# Altium footprint library Package_SO.PcbLib: 393 footprints (part 22 of 25)
Each footprint in its own frame and in the unit in brackets; x right, y up, seen from the top. Pads: shape width x height; smd on the part's side, far side on the other; paste and mask are expansions set on the pad; w line width, h text height; cw(c..) or ccw(c..) is an arc to the next point about the centre after c.
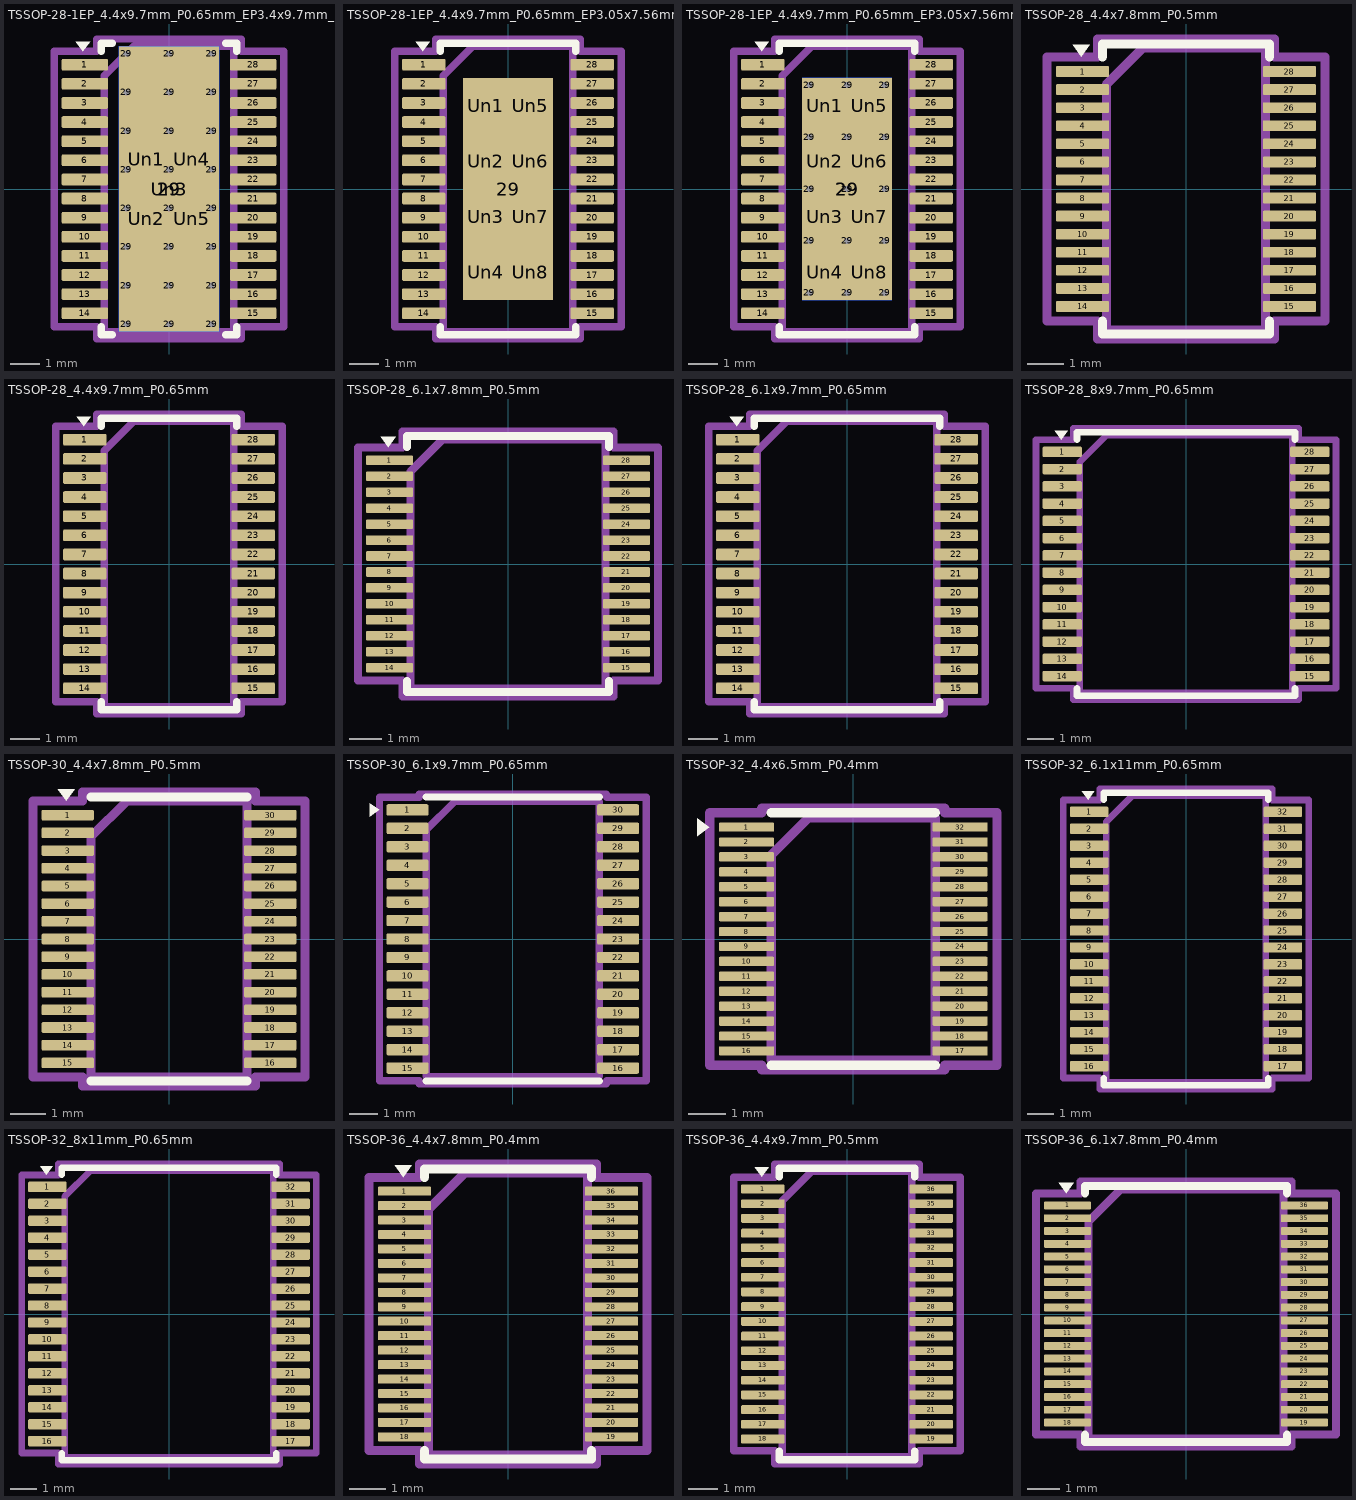
[diagram p21: the footprints below, top view; thin cyan lines are the x and y axes]

## TSSOP-28-1EP_4.4x9.7mm_P0.65mm_EP3.4x9.7mm_Mask3.1x4.05mm_ThermalVias [mm]
pads (59):
  rrect25% 1.575x0.4 smd: 1(-2.863,4.225) 2(-2.863,3.575) 3(-2.863,2.925) 4(-2.863,2.275) 5(-2.863,1.625) 6(-2.863,0.975) 7(-2.863,0.325) 8(-2.863,-0.325) 9(-2.863,-0.975) 10(-2.863,-1.625) 11(-2.863,-2.275) 12(-2.863,-2.925) 13(-2.863,-3.575) 14(-2.863,-4.225) 15(2.863,-4.225) 16(2.863,-3.575) 17(2.863,-2.925) 18(2.863,-2.275) 19(2.863,-1.625) 20(2.863,-0.975) 21(2.863,-0.325) 22(2.863,0.325) 23(2.863,0.975) 24(2.863,1.625) 25(2.863,2.275) 26(2.863,2.925) 27(2.863,3.575) 28(2.863,4.225)
  round 0.5 hole 0.2: 29(-1.45,-4.6) 29(-1.45,-3.286) 29(-1.45,-1.971) 29(-1.45,-0.657) 29(-1.45,0.657) 29(-1.45,1.971) 29(-1.45,3.286) 29(-1.45,4.6) 29(0,-4.6) 29(0,-3.286) 29(0,-1.971) 29(0,-0.657) 29(0,0.657) 29(0,1.971) 29(0,3.286) 29(0,4.6) 29(1.45,-4.6) 29(1.45,-3.286) 29(1.45,-1.971) 29(1.45,-0.657) 29(1.45,0.657) 29(1.45,1.971) 29(1.45,3.286) 29(1.45,4.6)
  rect 3.4x9.7 smd: 29(0,0)
  rect 3.4x9.7 smd far side: 29(0,0)
  rrect20% 1.25x1.63 on Top Paste: Un1(-0.775,1.01) Un2(-0.775,-1.01) Un4(0.775,1.01) Un5(0.775,-1.01)
  rect 3.1x4.05 on Top Solder: Un3(0,0)
F.SilkS:
  region: -2.925,4.685 -3.165,5.015 -2.685,5.015
  lines w0.254: -2.31,-4.685 -2.31,-4.96 -1.936,-4.96 ; -2.31,4.685 -2.31,4.96 -1.936,4.96 ; 1.936,-4.96 2.31,-4.96 2.31,-4.685 ; 1.936,4.96 2.31,4.96 2.31,4.685
Top Assembly:
  lines w0.254: -2.2,-4.85 2.2,-4.85 2.2,4.85 -1.2,4.85 -2.2,3.85 -2.2,-4.85
  text "'.Designator'" at -4.047,-0.84 h1
Top Courtyard:
  lines w0.254: -3.9,-4.68 -2.45,-4.68 -2.45,-5.1 2.45,-5.1 2.45,-4.68 3.9,-4.68 3.9,4.68 2.45,4.68 2.45,5.1 -2.45,5.1 -2.45,4.68 -3.9,4.68 -3.9,-4.68
Top Designator:
  text ".Designator" at -7.702,-0.508 h1.52

## TSSOP-28-1EP_4.4x9.7mm_P0.65mm_EP3.05x7.56mm [mm]
pads (37):
  rrect25% 1.475x0.4 smd: 1(-2.863,4.225) 2(-2.863,3.575) 3(-2.863,2.925) 4(-2.863,2.275) 5(-2.863,1.625) 6(-2.863,0.975) 7(-2.863,0.325) 8(-2.863,-0.325) 9(-2.863,-0.975) 10(-2.863,-1.625) 11(-2.863,-2.275) 12(-2.863,-2.925) 13(-2.863,-3.575) 14(-2.863,-4.225) 15(2.863,-4.225) 16(2.863,-3.575) 17(2.863,-2.925) 18(2.863,-2.275) 19(2.863,-1.625) 20(2.863,-0.975) 21(2.863,-0.325) 22(2.863,0.325) 23(2.863,0.975) 24(2.863,1.625) 25(2.863,2.275) 26(2.863,2.925) 27(2.863,3.575) 28(2.863,4.225)
  rect 3.05x7.56 smd: 29(0,0)
  rrect20% 1.23x1.52 on Top Paste: Un1(-0.76,2.835) Un2(-0.76,0.945) Un3(-0.76,-0.945) Un4(-0.76,-2.835) Un5(0.76,2.835) Un6(0.76,0.945) Un7(0.76,-0.945) Un8(0.76,-2.835)
F.SilkS:
  region: -2.9,4.685 -3.14,5.015 -2.66,5.015
  lines w0.254: -2.31,-4.685 -2.31,-4.96 0,-4.96 2.31,-4.96 2.31,-4.685 ; -2.31,4.685 -2.31,4.96 0,4.96 2.31,4.96 2.31,4.685
Top Assembly:
  lines w0.254: -2.2,-4.85 2.2,-4.85 2.2,4.85 -1.2,4.85 -2.2,3.85 -2.2,-4.85
  text "'.Designator'" at -4.047,-0.84 h1
Top Courtyard:
  lines w0.254: -3.85,-4.68 -2.45,-4.68 -2.45,-5.1 2.45,-5.1 2.45,-4.68 3.85,-4.68 3.85,4.68 2.45,4.68 2.45,5.1 -2.45,5.1 -2.45,4.68 -3.85,4.68 -3.85,-4.68
Top Designator:
  text ".Designator" at -7.727,-0.508 h1.52

## TSSOP-28-1EP_4.4x9.7mm_P0.65mm_EP3.05x7.56mm_ThermalVias [mm]
pads (53):
  rrect25% 1.475x0.4 smd: 1(-2.863,4.225) 2(-2.863,3.575) 3(-2.863,2.925) 4(-2.863,2.275) 5(-2.863,1.625) 6(-2.863,0.975) 7(-2.863,0.325) 8(-2.863,-0.325) 9(-2.863,-0.975) 10(-2.863,-1.625) 11(-2.863,-2.275) 12(-2.863,-2.925) 13(-2.863,-3.575) 14(-2.863,-4.225) 15(2.863,-4.225) 16(2.863,-3.575) 17(2.863,-2.925) 18(2.863,-2.275) 19(2.863,-1.625) 20(2.863,-0.975) 21(2.863,-0.325) 22(2.863,0.325) 23(2.863,0.975) 24(2.863,1.625) 25(2.863,2.275) 26(2.863,2.925) 27(2.863,3.575) 28(2.863,4.225)
  round 0.5 hole 0.2: 29(-1.275,-3.53) 29(-1.275,-1.765) 29(-1.275,0) 29(-1.275,1.765) 29(-1.275,3.53) 29(0,-3.53) 29(0,-1.765) 29(0,0) 29(0,1.765) 29(0,3.53) 29(1.275,-3.53) 29(1.275,-1.765) 29(1.275,0) 29(1.275,1.765) 29(1.275,3.53)
  rect 3.05x7.56 smd: 29(0,0)
  rect 3.05x7.56 smd far side: 29(0,0)
  rrect20% 1.23x1.52 on Top Paste: Un1(-0.76,2.835) Un2(-0.76,0.945) Un3(-0.76,-0.945) Un4(-0.76,-2.835) Un5(0.76,2.835) Un6(0.76,0.945) Un7(0.76,-0.945) Un8(0.76,-2.835)
F.SilkS:
  region: -2.9,4.685 -3.14,5.015 -2.66,5.015
  lines w0.254: -2.31,-4.685 -2.31,-4.96 0,-4.96 2.31,-4.96 2.31,-4.685 ; -2.31,4.685 -2.31,4.96 0,4.96 2.31,4.96 2.31,4.685
Top Assembly:
  lines w0.254: -2.2,-4.85 2.2,-4.85 2.2,4.85 -1.2,4.85 -2.2,3.85 -2.2,-4.85
  text "'.Designator'" at -4.047,-0.84 h1
Top Courtyard:
  lines w0.254: -3.85,-4.68 -2.45,-4.68 -2.45,-5.1 2.45,-5.1 2.45,-4.68 3.85,-4.68 3.85,4.68 2.45,4.68 2.45,5.1 -2.45,5.1 -2.45,4.68 -3.85,4.68 -3.85,-4.68
Top Designator:
  text ".Designator" at -7.727,-0.508 h1.52

## TSSOP-28_4.4x7.8mm_P0.5mm [mm]
pads (28):
  rrect25% 1.475x0.3 smd: 1(-2.863,3.25) 2(-2.863,2.75) 3(-2.863,2.25) 4(-2.863,1.75) 5(-2.863,1.25) 6(-2.863,0.75) 7(-2.863,0.25) 8(-2.863,-0.25) 9(-2.863,-0.75) 10(-2.863,-1.25) 11(-2.863,-1.75) 12(-2.863,-2.25) 13(-2.863,-2.75) 14(-2.863,-3.25) 15(2.863,-3.25) 16(2.863,-2.75) 17(2.863,-2.25) 18(2.863,-1.75) 19(2.863,-1.25) 20(2.863,-0.75) 21(2.863,-0.25) 22(2.863,0.25) 23(2.863,0.75) 24(2.863,1.25) 25(2.863,1.75) 26(2.863,2.25) 27(2.863,2.75) 28(2.863,3.25)
F.SilkS:
  region: -2.9,3.66 -3.14,3.99 -2.66,3.99
  lines w0.254: -2.31,-3.66 -2.31,-4.01 0,-4.01 2.31,-4.01 2.31,-3.66 ; -2.31,3.66 -2.31,4.01 0,4.01 2.31,4.01 2.31,3.66
Top Assembly:
  lines w0.254: -2.2,-3.9 2.2,-3.9 2.2,3.9 -1.2,3.9 -2.2,2.9 -2.2,-3.9
  text "'.Designator'" at -4.047,-0.84 h1
Top Courtyard:
  lines w0.254: -3.85,-3.65 -2.45,-3.65 -2.45,-4.15 2.45,-4.15 2.45,-3.65 3.85,-3.65 3.85,3.65 2.45,3.65 2.45,4.15 -2.45,4.15 -2.45,3.65 -3.85,3.65 -3.85,-3.65
Top Designator:
  text ".Designator" at -7.727,-0.508 h1.52

## TSSOP-28_4.4x9.7mm_P0.65mm [mm]
pads (28):
  rrect25% 1.475x0.4 smd: 1(-2.863,4.225) 2(-2.863,3.575) 3(-2.863,2.925) 4(-2.863,2.275) 5(-2.863,1.625) 6(-2.863,0.975) 7(-2.863,0.325) 8(-2.863,-0.325) 9(-2.863,-0.975) 10(-2.863,-1.625) 11(-2.863,-2.275) 12(-2.863,-2.925) 13(-2.863,-3.575) 14(-2.863,-4.225) 15(2.863,-4.225) 16(2.863,-3.575) 17(2.863,-2.925) 18(2.863,-2.275) 19(2.863,-1.625) 20(2.863,-0.975) 21(2.863,-0.325) 22(2.863,0.325) 23(2.863,0.975) 24(2.863,1.625) 25(2.863,2.275) 26(2.863,2.925) 27(2.863,3.575) 28(2.863,4.225)
F.SilkS:
  region: -2.9,4.685 -3.14,5.015 -2.66,5.015
  lines w0.254: -2.31,-4.685 -2.31,-4.96 0,-4.96 2.31,-4.96 2.31,-4.685 ; -2.31,4.685 -2.31,4.96 0,4.96 2.31,4.96 2.31,4.685
Top Assembly:
  lines w0.254: -2.2,-4.85 2.2,-4.85 2.2,4.85 -1.2,4.85 -2.2,3.85 -2.2,-4.85
  text "'.Designator'" at -4.047,-0.84 h1
Top Courtyard:
  lines w0.254: -3.85,-4.68 -2.45,-4.68 -2.45,-5.1 2.45,-5.1 2.45,-4.68 3.85,-4.68 3.85,4.68 2.45,4.68 2.45,5.1 -2.45,5.1 -2.45,4.68 -3.85,4.68 -3.85,-4.68
Top Designator:
  text ".Designator" at -7.727,-0.508 h1.52

## TSSOP-28_6.1x7.8mm_P0.5mm [mm]
pads (28):
  rrect25% 1.475x0.3 smd: 1(-3.712,3.25) 2(-3.712,2.75) 3(-3.712,2.25) 4(-3.712,1.75) 5(-3.712,1.25) 6(-3.712,0.75) 7(-3.712,0.25) 8(-3.712,-0.25) 9(-3.712,-0.75) 10(-3.712,-1.25) 11(-3.712,-1.75) 12(-3.712,-2.25) 13(-3.712,-2.75) 14(-3.712,-3.25) 15(3.712,-3.25) 16(3.712,-2.75) 17(3.712,-2.25) 18(3.712,-1.75) 19(3.712,-1.25) 20(3.712,-0.75) 21(3.712,-0.25) 22(3.712,0.25) 23(3.712,0.75) 24(3.712,1.25) 25(3.712,1.75) 26(3.712,2.25) 27(3.712,2.75) 28(3.712,3.25)
F.SilkS:
  region: -3.75,3.66 -3.99,3.99 -3.51,3.99
  lines w0.254: -3.16,-3.66 -3.16,-4.01 0,-4.01 3.16,-4.01 3.16,-3.66 ; -3.16,3.66 -3.16,4.01 0,4.01 3.16,4.01 3.16,3.66
Top Assembly:
  lines w0.254: -3.05,-3.9 3.05,-3.9 3.05,3.9 -2.05,3.9 -3.05,2.9 -3.05,-3.9
  text "'.Designator'" at -4.047,-0.84 h1
Top Courtyard:
  lines w0.254: -4.7,-3.65 -3.3,-3.65 -3.3,-4.15 3.3,-4.15 3.3,-3.65 4.7,-3.65 4.7,3.65 3.3,3.65 3.3,4.15 -3.3,4.15 -3.3,3.65 -4.7,3.65 -4.7,-3.65
Top Designator:
  text ".Designator" at -7.618,-0.508 h1.52

## TSSOP-28_6.1x9.7mm_P0.65mm [mm]
pads (28):
  rrect25% 1.475x0.4 smd: 1(-3.712,4.225) 2(-3.712,3.575) 3(-3.712,2.925) 4(-3.712,2.275) 5(-3.712,1.625) 6(-3.712,0.975) 7(-3.712,0.325) 8(-3.712,-0.325) 9(-3.712,-0.975) 10(-3.712,-1.625) 11(-3.712,-2.275) 12(-3.712,-2.925) 13(-3.712,-3.575) 14(-3.712,-4.225) 15(3.712,-4.225) 16(3.712,-3.575) 17(3.712,-2.925) 18(3.712,-2.275) 19(3.712,-1.625) 20(3.712,-0.975) 21(3.712,-0.325) 22(3.712,0.325) 23(3.712,0.975) 24(3.712,1.625) 25(3.712,2.275) 26(3.712,2.925) 27(3.712,3.575) 28(3.712,4.225)
F.SilkS:
  region: -3.75,4.685 -3.99,5.015 -3.51,5.015
  lines w0.254: -3.16,-4.685 -3.16,-4.96 0,-4.96 3.16,-4.96 3.16,-4.685 ; -3.16,4.685 -3.16,4.96 0,4.96 3.16,4.96 3.16,4.685
Top Assembly:
  lines w0.254: -3.05,-4.85 3.05,-4.85 3.05,4.85 -2.05,4.85 -3.05,3.85 -3.05,-4.85
  text "'.Designator'" at -4.047,-0.84 h1
Top Courtyard:
  lines w0.254: -4.7,-4.68 -3.3,-4.68 -3.3,-5.1 3.3,-5.1 3.3,-4.68 4.7,-4.68 4.7,4.68 3.3,4.68 3.3,5.1 -3.3,5.1 -3.3,4.68 -4.7,4.68 -4.7,-4.68
Top Designator:
  text ".Designator" at -7.618,-0.508 h1.52

## TSSOP-28_8x9.7mm_P0.65mm [mm]
pads (28):
  rrect25% 1.475x0.4 smd: 1(-4.663,4.225) 2(-4.663,3.575) 3(-4.663,2.925) 4(-4.663,2.275) 5(-4.663,1.625) 6(-4.663,0.975) 7(-4.663,0.325) 8(-4.663,-0.325) 9(-4.663,-0.975) 10(-4.663,-1.625) 11(-4.663,-2.275) 12(-4.663,-2.925) 13(-4.663,-3.575) 14(-4.663,-4.225) 15(4.663,-4.225) 16(4.663,-3.575) 17(4.663,-2.925) 18(4.663,-2.275) 19(4.663,-1.625) 20(4.663,-0.975) 21(4.663,-0.325) 22(4.663,0.325) 23(4.663,0.975) 24(4.663,1.625) 25(4.663,2.275) 26(4.663,2.925) 27(4.663,3.575) 28(4.663,4.225)
F.SilkS:
  region: -4.7,4.685 -4.94,5.015 -4.46,5.015
  lines w0.254: -4.11,-4.685 -4.11,-4.96 0,-4.96 4.11,-4.96 4.11,-4.685 ; -4.11,4.685 -4.11,4.96 0,4.96 4.11,4.96 4.11,4.685
Top Assembly:
  lines w0.254: -4,-4.85 4,-4.85 4,4.85 -3,4.85 -4,3.85 -4,-4.85
  text "'.Designator'" at -4.047,-0.84 h1
Top Courtyard:
  lines w0.254: -5.65,-4.68 -4.25,-4.68 -4.25,-5.1 4.25,-5.1 4.25,-4.68 5.65,-4.68 5.65,4.68 4.25,4.68 4.25,5.1 -4.25,5.1 -4.25,4.68 -5.65,4.68 -5.65,-4.68
Top Designator:
  text ".Designator" at -7.618,-0.508 h1.52

## TSSOP-30_4.4x7.8mm_P0.5mm [mm]
pads (30):
  rrect25% 1.475x0.3 smd: 1(-2.863,3.5) 2(-2.863,3) 3(-2.863,2.5) 4(-2.863,2) 5(-2.863,1.5) 6(-2.863,1) 7(-2.863,0.5) 8(-2.863,0) 9(-2.863,-0.5) 10(-2.863,-1) 11(-2.863,-1.5) 12(-2.863,-2) 13(-2.863,-2.5) 14(-2.863,-3) 15(-2.863,-3.5) 16(2.863,-3.5) 17(2.863,-3) 18(2.863,-2.5) 19(2.863,-2) 20(2.863,-1.5) 21(2.863,-1) 22(2.863,-0.5) 23(2.863,0) 24(2.863,0.5) 25(2.863,1) 26(2.863,1.5) 27(2.863,2) 28(2.863,2.5) 29(2.863,3) 30(2.863,3.5)
F.SilkS:
  region: -2.9,3.91 -3.14,4.24 -2.66,4.24
  lines w0.254: -2.2,-4.01 0,-4.01 2.2,-4.01 ; -2.2,4.01 0,4.01 2.2,4.01
Top Assembly:
  lines w0.254: -2.2,-3.9 2.2,-3.9 2.2,3.9 -1.2,3.9 -2.2,2.9 -2.2,-3.9
  text "'.Designator'" at -4.047,-0.84 h1
Top Courtyard:
  lines w0.254: -3.85,-3.9 -2.45,-3.9 -2.45,-4.15 2.45,-4.15 2.45,-3.9 3.85,-3.9 3.85,3.9 2.45,3.9 2.45,4.15 -2.45,4.15 -2.45,3.9 -3.85,3.9 -3.85,-3.9
Top Designator:
  text ".Designator" at -7.727,-0.508 h1.52

## TSSOP-30_6.1x9.7mm_P0.65mm [mm]
pads (30):
  rrect25% 1.475x0.4 smd: 1(-3.712,4.55) 2(-3.712,3.9) 3(-3.712,3.25) 4(-3.712,2.6) 5(-3.712,1.95) 6(-3.712,1.3) 7(-3.712,0.65) 8(-3.712,0) 9(-3.712,-0.65) 10(-3.712,-1.3) 11(-3.712,-1.95) 12(-3.712,-2.6) 13(-3.712,-3.25) 14(-3.712,-3.9) 15(-3.712,-4.55) 16(3.712,-4.55) 17(3.712,-3.9) 18(3.712,-3.25) 19(3.712,-2.6) 20(3.712,-1.95) 21(3.712,-1.3) 22(3.712,-0.65) 23(3.712,0) 24(3.712,0.65) 25(3.712,1.3) 26(3.712,1.95) 27(3.712,2.6) 28(3.712,3.25) 29(3.712,3.9) 30(3.712,4.55)
F.SilkS:
  region: -4.71,4.55 -5.04,4.31 -5.04,4.79
  lines w0.254: -3.05,-5.01 0,-5.01 3.05,-5.01 ; -3.05,5.01 0,5.01 3.05,5.01
Top Assembly:
  lines w0.254: -3.05,-4.85 3.05,-4.85 3.05,4.85 -2.05,4.85 -3.05,3.85 -3.05,-4.85
  text "'.Designator'" at -4.047,-0.84 h1
Top Courtyard:
  lines w0.254: -4.7,-5 -3.3,-5 -3.3,-5.1 3.3,-5.1 3.3,-5 4.7,-5 4.7,5 3.3,5 3.3,5.1 -3.3,5.1 -3.3,5 -4.7,5 -4.7,-5
Top Designator:
  text ".Designator" at -7.724,-0.508 h1.52

## TSSOP-32_4.4x6.5mm_P0.4mm [mm]
pads (32):
  rrect25% 1.475x0.25 smd: 1(-2.863,3) 2(-2.863,2.6) 3(-2.863,2.2) 4(-2.863,1.8) 5(-2.863,1.4) 6(-2.863,1) 7(-2.863,0.6) 8(-2.863,0.2) 9(-2.863,-0.2) 10(-2.863,-0.6) 11(-2.863,-1) 12(-2.863,-1.4) 13(-2.863,-1.8) 14(-2.863,-2.2) 15(-2.863,-2.6) 16(-2.863,-3) 17(2.863,-3) 18(2.863,-2.6) 19(2.863,-2.2) 20(2.863,-1.8) 21(2.863,-1.4) 22(2.863,-1) 23(2.863,-0.6) 24(2.863,-0.2) 25(2.863,0.2) 26(2.863,0.6) 27(2.863,1) 28(2.863,1.4) 29(2.863,1.8) 30(2.863,2.2) 31(2.863,2.6) 32(2.863,3)
F.SilkS:
  region: -3.86,3 -4.19,2.76 -4.19,3.24
  lines w0.254: -2.2,-3.385 0,-3.385 2.2,-3.385 ; -2.2,3.385 0,3.385 2.2,3.385
Top Assembly:
  lines w0.254: -2.2,-3.25 2.2,-3.25 2.2,3.25 -1.2,3.25 -2.2,2.25 -2.2,-3.25
  text "'.Designator'" at -4.047,-0.84 h1
Top Courtyard:
  lines w0.254: -3.85,-3.38 -2.45,-3.38 -2.45,-3.5 2.45,-3.5 2.45,-3.38 3.85,-3.38 3.85,3.38 2.45,3.38 2.45,3.5 -2.45,3.5 -2.45,3.38 -3.85,3.38 -3.85,-3.38
Top Designator:
  text ".Designator" at -7.727,-0.508 h1.52

## TSSOP-32_6.1x11mm_P0.65mm [mm]
pads (32):
  rrect25% 1.475x0.4 smd: 1(-3.712,4.875) 2(-3.712,4.225) 3(-3.712,3.575) 4(-3.712,2.925) 5(-3.712,2.275) 6(-3.712,1.625) 7(-3.712,0.975) 8(-3.712,0.325) 9(-3.712,-0.325) 10(-3.712,-0.975) 11(-3.712,-1.625) 12(-3.712,-2.275) 13(-3.712,-2.925) 14(-3.712,-3.575) 15(-3.712,-4.225) 16(-3.712,-4.875) 17(3.712,-4.875) 18(3.712,-4.225) 19(3.712,-3.575) 20(3.712,-2.925) 21(3.712,-2.275) 22(3.712,-1.625) 23(3.712,-0.975) 24(3.712,-0.325) 25(3.712,0.325) 26(3.712,0.975) 27(3.712,1.625) 28(3.712,2.275) 29(3.712,2.925) 30(3.712,3.575) 31(3.712,4.225) 32(3.712,4.875)
F.SilkS:
  region: -3.75,5.335 -3.99,5.665 -3.51,5.665
  lines w0.254: -3.16,-5.335 -3.16,-5.61 0,-5.61 3.16,-5.61 3.16,-5.335 ; -3.16,5.335 -3.16,5.61 0,5.61 3.16,5.61 3.16,5.335
Top Assembly:
  lines w0.254: -3.05,-5.5 3.05,-5.5 3.05,5.5 -2.05,5.5 -3.05,4.5 -3.05,-5.5
  text "'.Designator'" at -4.047,-0.84 h1
Top Courtyard:
  lines w0.254: -4.7,-5.33 -3.3,-5.33 -3.3,-5.75 3.3,-5.75 3.3,-5.33 4.7,-5.33 4.7,5.33 3.3,5.33 3.3,5.75 -3.3,5.75 -3.3,5.33 -4.7,5.33 -4.7,-5.33
Top Designator:
  text ".Designator" at -7.618,-0.508 h1.52

## TSSOP-32_8x11mm_P0.65mm [mm]
pads (32):
  rrect25% 1.475x0.4 smd: 1(-4.663,4.875) 2(-4.663,4.225) 3(-4.663,3.575) 4(-4.663,2.925) 5(-4.663,2.275) 6(-4.663,1.625) 7(-4.663,0.975) 8(-4.663,0.325) 9(-4.663,-0.325) 10(-4.663,-0.975) 11(-4.663,-1.625) 12(-4.663,-2.275) 13(-4.663,-2.925) 14(-4.663,-3.575) 15(-4.663,-4.225) 16(-4.663,-4.875) 17(4.663,-4.875) 18(4.663,-4.225) 19(4.663,-3.575) 20(4.663,-2.925) 21(4.663,-2.275) 22(4.663,-1.625) 23(4.663,-0.975) 24(4.663,-0.325) 25(4.663,0.325) 26(4.663,0.975) 27(4.663,1.625) 28(4.663,2.275) 29(4.663,2.925) 30(4.663,3.575) 31(4.663,4.225) 32(4.663,4.875)
F.SilkS:
  region: -4.7,5.335 -4.94,5.665 -4.46,5.665
  lines w0.254: -4.11,-5.335 -4.11,-5.61 0,-5.61 4.11,-5.61 4.11,-5.335 ; -4.11,5.335 -4.11,5.61 0,5.61 4.11,5.61 4.11,5.335
Top Assembly:
  lines w0.254: -4,-5.5 4,-5.5 4,5.5 -3,5.5 -4,4.5 -4,-5.5
  text "'.Designator'" at -4.047,-0.84 h1
Top Courtyard:
  lines w0.254: -5.65,-5.33 -4.25,-5.33 -4.25,-5.75 4.25,-5.75 4.25,-5.33 5.65,-5.33 5.65,5.33 4.25,5.33 4.25,5.75 -4.25,5.75 -4.25,5.33 -5.65,5.33 -5.65,-5.33
Top Designator:
  text ".Designator" at -7.618,-0.508 h1.52

## TSSOP-36_4.4x7.8mm_P0.4mm [mm]
pads (36):
  rrect25% 1.475x0.25 smd: 1(-2.863,3.4) 2(-2.863,3) 3(-2.863,2.6) 4(-2.863,2.2) 5(-2.863,1.8) 6(-2.863,1.4) 7(-2.863,1) 8(-2.863,0.6) 9(-2.863,0.2) 10(-2.863,-0.2) 11(-2.863,-0.6) 12(-2.863,-1) 13(-2.863,-1.4) 14(-2.863,-1.8) 15(-2.863,-2.2) 16(-2.863,-2.6) 17(-2.863,-3) 18(-2.863,-3.4) 19(2.863,-3.4) 20(2.863,-3) 21(2.863,-2.6) 22(2.863,-2.2) 23(2.863,-1.8) 24(2.863,-1.4) 25(2.863,-1) 26(2.863,-0.6) 27(2.863,-0.2) 28(2.863,0.2) 29(2.863,0.6) 30(2.863,1) 31(2.863,1.4) 32(2.863,1.8) 33(2.863,2.2) 34(2.863,2.6) 35(2.863,3) 36(2.863,3.4)
F.SilkS:
  region: -2.9,3.785 -3.14,4.115 -2.66,4.115
  lines w0.254: -2.31,-3.785 -2.31,-4.01 0,-4.01 2.31,-4.01 2.31,-3.785 ; -2.31,3.785 -2.31,4.01 0,4.01 2.31,4.01 2.31,3.785
Top Assembly:
  lines w0.254: -2.2,-3.9 2.2,-3.9 2.2,3.9 -1.2,3.9 -2.2,2.9 -2.2,-3.9
  text "'.Designator'" at -4.047,-0.84 h1
Top Courtyard:
  lines w0.254: -3.85,-3.78 -2.45,-3.78 -2.45,-4.15 2.45,-4.15 2.45,-3.78 3.85,-3.78 3.85,3.78 2.45,3.78 2.45,4.15 -2.45,4.15 -2.45,3.78 -3.85,3.78 -3.85,-3.78
Top Designator:
  text ".Designator" at -7.727,-0.508 h1.52

## TSSOP-36_4.4x9.7mm_P0.5mm [mm]
pads (36):
  rrect25% 1.475x0.3 smd: 1(-2.863,4.25) 2(-2.863,3.75) 3(-2.863,3.25) 4(-2.863,2.75) 5(-2.863,2.25) 6(-2.863,1.75) 7(-2.863,1.25) 8(-2.863,0.75) 9(-2.863,0.25) 10(-2.863,-0.25) 11(-2.863,-0.75) 12(-2.863,-1.25) 13(-2.863,-1.75) 14(-2.863,-2.25) 15(-2.863,-2.75) 16(-2.863,-3.25) 17(-2.863,-3.75) 18(-2.863,-4.25) 19(2.863,-4.25) 20(2.863,-3.75) 21(2.863,-3.25) 22(2.863,-2.75) 23(2.863,-2.25) 24(2.863,-1.75) 25(2.863,-1.25) 26(2.863,-0.75) 27(2.863,-0.25) 28(2.863,0.25) 29(2.863,0.75) 30(2.863,1.25) 31(2.863,1.75) 32(2.863,2.25) 33(2.863,2.75) 34(2.863,3.25) 35(2.863,3.75) 36(2.863,4.25)
F.SilkS:
  region: -2.9,4.66 -3.14,4.99 -2.66,4.99
  lines w0.254: -2.31,-4.66 -2.31,-4.96 0,-4.96 2.31,-4.96 2.31,-4.66 ; -2.31,4.66 -2.31,4.96 0,4.96 2.31,4.96 2.31,4.66
Top Assembly:
  lines w0.254: -2.2,-4.85 2.2,-4.85 2.2,4.85 -1.2,4.85 -2.2,3.85 -2.2,-4.85
  text "'.Designator'" at -4.047,-0.84 h1
Top Courtyard:
  lines w0.254: -3.85,-4.65 -2.45,-4.65 -2.45,-5.1 2.45,-5.1 2.45,-4.65 3.85,-4.65 3.85,4.65 2.45,4.65 2.45,5.1 -2.45,5.1 -2.45,4.65 -3.85,4.65 -3.85,-4.65
Top Designator:
  text ".Designator" at -7.727,-0.508 h1.52

## TSSOP-36_6.1x7.8mm_P0.4mm [mm]
pads (36):
  rrect25% 1.475x0.25 smd: 1(-3.712,3.4) 2(-3.712,3) 3(-3.712,2.6) 4(-3.712,2.2) 5(-3.712,1.8) 6(-3.712,1.4) 7(-3.712,1) 8(-3.712,0.6) 9(-3.712,0.2) 10(-3.712,-0.2) 11(-3.712,-0.6) 12(-3.712,-1) 13(-3.712,-1.4) 14(-3.712,-1.8) 15(-3.712,-2.2) 16(-3.712,-2.6) 17(-3.712,-3) 18(-3.712,-3.4) 19(3.712,-3.4) 20(3.712,-3) 21(3.712,-2.6) 22(3.712,-2.2) 23(3.712,-1.8) 24(3.712,-1.4) 25(3.712,-1) 26(3.712,-0.6) 27(3.712,-0.2) 28(3.712,0.2) 29(3.712,0.6) 30(3.712,1) 31(3.712,1.4) 32(3.712,1.8) 33(3.712,2.2) 34(3.712,2.6) 35(3.712,3) 36(3.712,3.4)
F.SilkS:
  region: -3.75,3.785 -3.99,4.115 -3.51,4.115
  lines w0.254: -3.16,-3.785 -3.16,-4.01 0,-4.01 3.16,-4.01 3.16,-3.785 ; -3.16,3.785 -3.16,4.01 0,4.01 3.16,4.01 3.16,3.785
Top Assembly:
  lines w0.254: -3.05,-3.9 3.05,-3.9 3.05,3.9 -2.05,3.9 -3.05,2.9 -3.05,-3.9
  text "'.Designator'" at -4.047,-0.84 h1
Top Courtyard:
  lines w0.254: -4.7,-3.78 -3.3,-3.78 -3.3,-4.15 3.3,-4.15 3.3,-3.78 4.7,-3.78 4.7,3.78 3.3,3.78 3.3,4.15 -3.3,4.15 -3.3,3.78 -4.7,3.78 -4.7,-3.78
Top Designator:
  text ".Designator" at -7.618,-0.508 h1.52